# Altium footprint library TPS63070RNMR.PcbLib: 1 footprints
Each footprint in its own frame and in the unit in brackets; x right, y up, seen from the top. Pads: shape width x height; smd on the part's side, far side on the other; paste and mask are expansions set on the pad; w line width, h text height; cw(c..) or ccw(c..) is an arc to the next point about the centre after c.
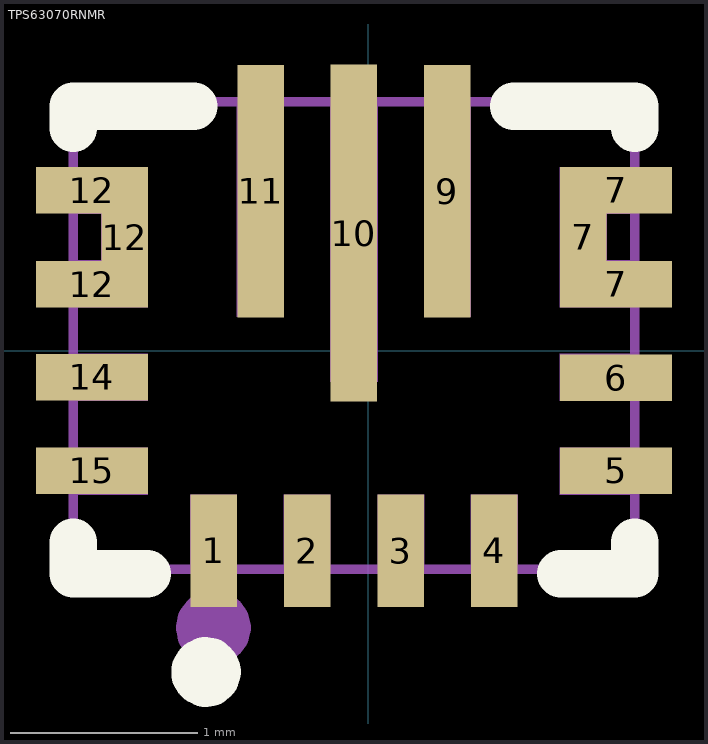
[diagram p0: the footprint, top view; thin cyan lines are the x and y axes]

## TPS63070RNMR [mil]
pads (17):
  rect 9.8x23.6 smd paste-3937 mask+2: 1(-32.6,-42.1) 2(-12.9,-42.1) 3(6.8,-42.1) 4(26.5,-42.1)
  rect 23.6x9.8 smd paste-3937 mask+2: 5(52.1,-25.3) 6(52.1,-5.7) 7(52.1,14) 7(52.1,33.7) 12(-58.2,14) 12(-58.2,33.7) 14(-58.2,-5.6) 15(-58.2,-25.3)
  rect 9.8x29.5 smd paste-3937 mask+2: 7(45.2,23.9) 12(-51.3,23.9)
  rect 9.8x53.1 smd paste-3937 mask+2: 9(16.6,33.5) 11(-22.7,33.5)
  rect 9.8x70.9 smd paste-3937 mask+2: 10(-3.1,24.7)
Top Overlay:
  lines w10: -62.1,-40.3 -62.1,-47 -46.6,-47 ; -62.1,46.8 -62.1,51.4 -36.8,51.4 ; 30.6,51.4 56,51.4 56,46.8 ; 40.5,-47 56,-47 56,-40.3 ; -36.4,-68.3 -36.4,-67 -35.7,-65.9 -34.5,-65.3 -33.2,-65.5 -32.2,-66.4 -31.8,-67.6 -32.2,-68.9 -33.2,-69.8 -34.5,-70 -35.7,-69.4 -36.4,-68.3
Top Paste:
  region: 63.9,38.7 40.2,38.7 40.2,9.1 63.9,9.1 63.9,19 50.1,19 50.1,28.8 63.9,28.8
  region: -70,9.1 -46.4,9.1 -46.4,38.6 -70,38.6 -70,28.8 -56.2,28.8 -56.2,18.9 -70,18.9
  region: -70,-30.3 -70,-20.4 -46.4,-20.4 -46.4,-30.3
  region: -70,-10.6 -70,-0.7 -46.4,-0.7 -46.4,-10.6
  region: -27.7,60.1 -17.8,60.1 -17.8,7 -27.7,7
  region: -8,60.1 1.9,60.1 1.9,-10.8 -8,-10.8
  region: 11.7,60.1 21.5,60.1 21.5,7 11.7,7
  region: 63.9,-0.7 63.9,-10.6 40.2,-10.6 40.2,-0.7
  region: 63.9,-20.4 63.9,-30.3 40.2,-30.3 40.2,-20.4
  region: 31.4,-53.9 21.5,-53.9 21.5,-30.3 31.4,-30.3
  region: 11.7,-53.9 1.9,-53.9 1.9,-30.3 11.7,-30.3
  region: -8,-53.9 -17.8,-53.9 -17.8,-30.3 -8,-30.3
  region: -27.7,-53.9 -37.5,-53.9 -37.5,-30.3 -27.7,-30.3
Mechanical 2:
  lines w7.9: -36.6,-58.3 -36.2,-56.6 -35.1,-55.2 -33.5,-54.5 -31.8,-54.5 -30.2,-55.2 -29.1,-56.6 -28.7,-58.3 -29.1,-60 -30.2,-61.4 -31.8,-62.2 -33.5,-62.2 -35.1,-61.4 -36.2,-60 -36.6,-58.3
Mechanical 6:
  lines w2: -62.1,-46 56,-46 56,52.4 -62.1,52.4 -62.1,-46
Mechanical 8:
  region: -59.8,-46 -60.1,-47.3 -61.1,-48.2 -62.5,-48.3 -63.7,-47.8 -64.4,-46.7 -64.4,-45.3 -63.7,-44.2 -62.5,-43.7 -61.1,-43.9 -60.1,-44.7
Mechanical 9:
  region: -27.7,52.4 -17.8,52.4 -17.8,7.1 -27.7,7.1
  region: 11.7,52.4 21.5,52.4 21.5,7.1 11.7,7.1
  region: -8,52.4 1.9,52.4 1.9,-6.6 -8,-6.6
  region: 56,38.6 56,28.8 40.2,28.8 40.2,38.6
  region: 56,19 56,9.1 40.2,9.1 40.2,19
  region: -62.1,28.8 -62.1,38.6 -46.4,38.6 -46.4,28.8
  region: -62.1,9.1 -62.1,19 -46.4,19 -46.4,9.1
  region: 56,-20.4 56,-30.3 40.2,-30.3 40.2,-20.4
  region: 56,-0.7 56,-10.6 40.2,-10.6 40.2,-0.7
  region: -62.1,-30.3 -62.1,-20.4 -46.4,-20.4 -46.4,-30.3
  region: -62.1,-10.6 -62.1,-0.7 -46.4,-0.7 -46.4,-10.6
  region: -27.7,-46 -37.5,-46 -37.5,-30.3 -27.7,-30.3
  region: -8,-46 -17.8,-46 -17.8,-30.3 -8,-30.3
  region: 11.7,-46 1.9,-46 1.9,-30.3 11.7,-30.3
  region: 31.4,-46 21.5,-46 21.5,-30.3 31.4,-30.3
  region: 40.2,38.6 50.1,38.6 50.1,9.1 40.2,9.1
  region: -46.4,9.1 -56.2,9.1 -56.2,38.6 -46.4,38.6